# Altium schematic symbol library HC32LFx3x.SchLib: 7 symbols
Pins are listed as number, name and electrical type; pins without a type are passive.

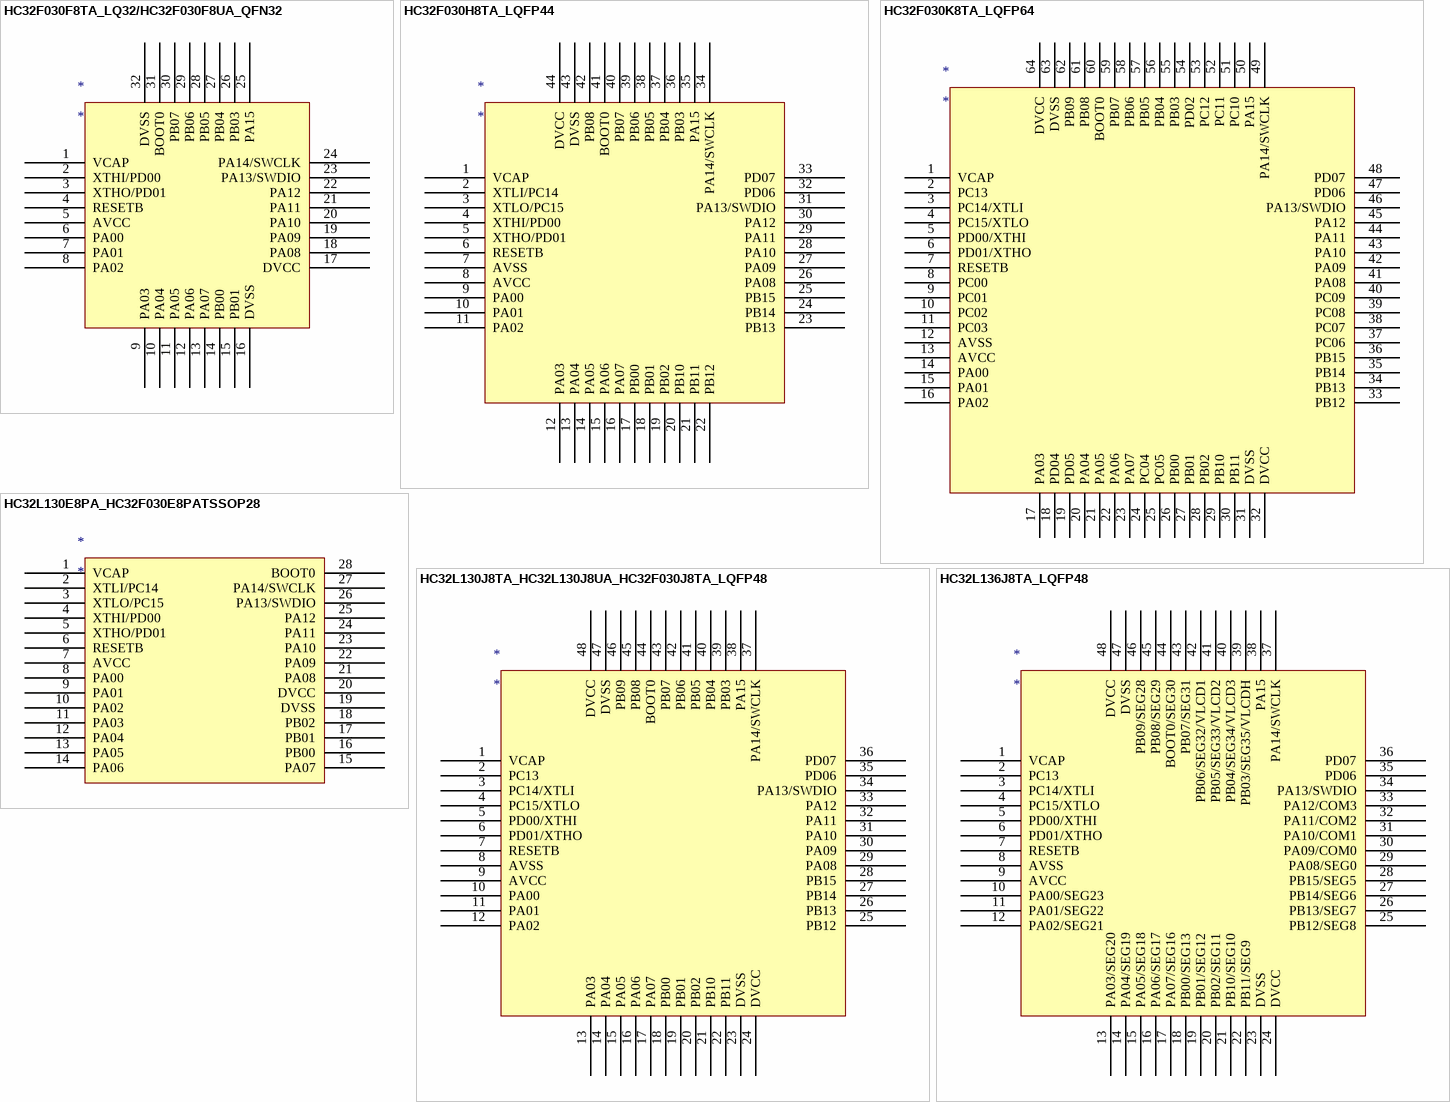
[diagram p0: symbols HC32F030F8TA_LQ32/HC32F030F8UA_QFN32 to HC32L136J8TA_LQFP48]

## HC32F030F8TA_LQ32/HC32F030F8UA_QFN32
designator *
pins: 1 VCAP, 2 XTHI/PD00, 3 XTHO/PD01, 4 RESETB, 5 AVCC, 6 PA00, 7 PA01, 8 PA02, 9 PA03, 10 PA04, 11 PA05, 12 PA06, 13 PA07, 14 PB00, 15 PB01, 16 DVSS, 17 DVCC, 18 PA08, 19 PA09, 20 PA10, 21 PA11, 22 PA12, 23 PA13/SWDIO, 24 PA14/SWCLK, 25 PA15, 26 PB03, 27 PB04, 28 PB05, 29 PB06, 30 PB07, 31 BOOT0, 32 DVSS

## HC32F030H8TA_LQFP44
designator *
pins: 1 VCAP, 2 XTLI/PC14, 3 XTLO/PC15, 4 XTHI/PD00, 5 XTHO/PD01, 6 RESETB, 7 AVSS, 8 AVCC, 9 PA00, 10 PA01, 11 PA02, 12 PA03, 13 PA04, 14 PA05, 15 PA06, 16 PA07, 17 PB00, 18 PB01, 19 PB02, 20 PB10, 21 PB11, 22 PB12, 23 PB13, 24 PB14, 25 PB15, 26 PA08, 27 PA09, 28 PA10, 29 PA11, 30 PA12, 31 PA13/SWDIO, 32 PD06, 33 PD07, 34 PA14/SWCLK, 35 PA15, 36 PB03, 37 PB04, 38 PB05, 39 PB06, 40 PB07, 41 BOOT0, 42 PB08, 43 DVSS, 44 DVCC

## HC32F030K8TA_LQFP64
designator *
pins: 1 VCAP, 2 PC13, 3 PC14/XTLI, 4 PC15/XTLO, 5 PD00/XTHI, 6 PD01/XTHO, 7 RESETB, 8 PC00, 9 PC01, 10 PC02, 11 PC03, 12 AVSS, 13 AVCC, 14 PA00, 15 PA01, 16 PA02, 17 PA03, 18 PD04, 19 PD05, 20 PA04, 21 PA05, 22 PA06, 23 PA07, 24 PC04, 25 PC05, 26 PB00, 27 PB01, 28 PB02, 29 PB10, 30 PB11, 31 DVSS, 32 DVCC, 33 PB12, 34 PB13, 35 PB14, 36 PB15, 37 PC06, 38 PC07, 39 PC08, 40 PC09, 41 PA08, 42 PA09, 43 PA10, 44 PA11, 45 PA12, 46 PA13/SWDIO, 47 PD06, 48 PD07, 49 PA14/SWCLK, 50 PA15, 51 PC10, 52 PC11, 53 PC12, 54 PD02, 55 PB03, 56 PB04, 57 PB05, 58 PB06, 59 PB07, 60 BOOT0, 61 PB08, 62 PB09, 63 DVSS, 64 DVCC

## HC32L130E8PA_HC32F030E8PATSSOP28
designator *
pins: 1 VCAP, 2 XTLI/PC14, 3 XTLO/PC15, 4 XTHI/PD00, 5 XTHO/PD01, 6 RESETB, 7 AVCC, 8 PA00, 9 PA01, 10 PA02, 11 PA03, 12 PA04, 13 PA05, 14 PA06, 15 PA07, 16 PB00, 17 PB01, 18 PB02, 19 DVSS, 20 DVCC, 21 PA08, 22 PA09, 23 PA10, 24 PA11, 25 PA12, 26 PA13/SWDIO, 27 PA14/SWCLK, 28 BOOT0

## HC32L130J8TA_HC32L130J8UA_HC32F030J8TA_LQFP48
designator *
pins: 1 VCAP, 2 PC13, 3 PC14/XTLI, 4 PC15/XTLO, 5 PD00/XTHI, 6 PD01/XTHO, 7 RESETB, 8 AVSS, 9 AVCC, 10 PA00, 11 PA01, 12 PA02, 13 PA03, 14 PA04, 15 PA05, 16 PA06, 17 PA07, 18 PB00, 19 PB01, 20 PB02, 21 PB10, 22 PB11, 23 DVSS, 24 DVCC, 25 PB12, 26 PB13, 27 PB14, 28 PB15, 29 PA08, 30 PA09, 31 PA10, 32 PA11, 33 PA12, 34 PA13/SWDIO, 35 PD06, 36 PD07, 37 PA14/SWCLK, 38 PA15, 39 PB03, 40 PB04, 41 PB05, 42 PB06, 43 PB07, 44 BOOT0, 45 PB08, 46 PB09, 47 DVSS, 48 DVCC

## HC32L136J8TA_LQFP48
designator *
pins: 1 VCAP, 2 PC13, 3 PC14/XTLI, 4 PC15/XTLO, 5 PD00/XTHI, 6 PD01/XTHO, 7 RESETB, 8 AVSS, 9 AVCC, 10 PA00/SEG23, 11 PA01/SEG22, 12 PA02/SEG21, 13 PA03/SEG20, 14 PA04/SEG19, 15 PA05/SEG18, 16 PA06/SEG17, 17 PA07/SEG16, 18 PB00/SEG13, 19 PB01/SEG12, 20 PB02/SEG11, 21 PB10/SEG10, 22 PB11/SEG9, 23 DVSS, 24 DVCC, 25 PB12/SEG8, 26 PB13/SEG7, 27 PB14/SEG6, 28 PB15/SEG5, 29 PA08/SEG0, 30 PA09/COM0, 31 PA10/COM1, 32 PA11/COM2, 33 PA12/COM3, 34 PA13/SWDIO, 35 PD06, 36 PD07, 37 PA14/SWCLK, 38 PA15, 39 PB03/SEG35/VLCDH, 40 PB04/SEG34/VLCD3, 41 PB05/SEG33/VLCD2, 42 PB06/SEG32/VLCD1, 43 PB07/SEG31, 44 BOOT0/SEG30, 45 PB08/SEG29, 46 PB09/SEG28, 47 DVSS, 48 DVCC

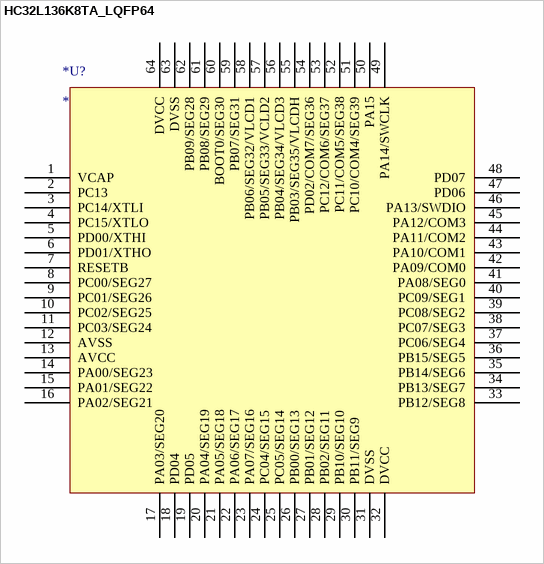
[diagram p1: symbol HC32L136K8TA_LQFP64]

## HC32L136K8TA_LQFP64
designator *U?
pins: 1 VCAP, 2 PC13, 3 PC14/XTLI, 4 PC15/XTLO, 5 PD00/XTHI, 6 PD01/XTHO, 7 RESETB, 8 PC00/SEG27, 9 PC01/SEG26, 10 PC02/SEG25, 11 PC03/SEG24, 12 AVSS, 13 AVCC, 14 PA00/SEG23, 15 PA01/SEG22, 16 PA02/SEG21, 17 PA03/SEG20, 18 PD04, 19 PD05, 20 PA04/SEG19, 21 PA05/SEG18, 22 PA06/SEG17, 23 PA07/SEG16, 24 PC04/SEG15, 25 PC05/SEG14, 26 PB00/SEG13, 27 PB01/SEG12, 28 PB02/SEG11, 29 PB10/SEG10, 30 PB11/SEG9, 31 DVSS, 32 DVCC, 33 PB12/SEG8, 34 PB13/SEG7, 35 PB14/SEG6, 36 PB15/SEG5, 37 PC06/SEG4, 38 PC07/SEG3, 39 PC08/SEG2, 40 PC09/SEG1, 41 PA08/SEG0, 42 PA09/COM0, 43 PA10/COM1, 44 PA11/COM2, 45 PA12/COM3, 46 PA13/SWDIO, 47 PD06, 48 PD07, 49 PA14/SWCLK, 50 PA15, 51 PC10/COM4/SEG39, 52 PC11/COM5/SEG38, 53 PC12/COM6/SEG37, 54 PD02/COM7/SEG36, 55 PB03/SEG35/VLCDH, 56 PB04/SEG34/VLCD3, 57 PB05/SEG33/VCLD2, 58 PB06/SEG32/VLCD1, 59 PB07/SEG31, 60 BOOT0/SEG30, 61 PB08/SEG29, 62 PB09/SEG28, 63 DVSS, 64 DVCC